# EAGLE library part TPS7A7200RGWR (library LDO)
CIC REG LINEAR POS ADJ 2A 20VQFN Manufacturer's datasheet <http://www.ti.com/lit/ds/symlink/tps7a7200.pdf?HQS=TI-null-null-digikeymode-df-pf-null-wwe&ts=1591771933105&ref_url=http://www.ti.com/general/docs/suppproductinfo.tsp?distId%3D10&gotoUrl=http://www.ti.com/lit/gpn/tps7a7200>
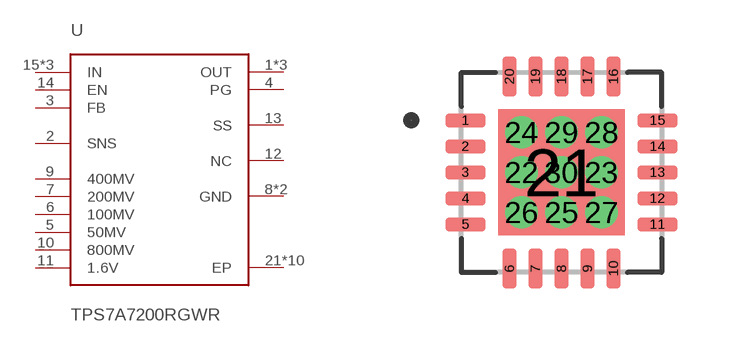
[diagram p5: symbol with the pads of 20-QFN-EP; footprint 20-QFN-EP]

Designator prefix U

## TPS7A7200RGWR (CREATED_BY: PCBLayout.com; DIGIKEY_PARTNO: 296-36860-1-ND; MANUFACTURER: Texas Instruments; MPN: TPS7A7200RGWR; PACKAGE: 20-VQFN)  [20-QFN-EP]
1  OUT  out
2  SNS  in
3  FB  in
4  PG  out
5  50MV  in
6  100MV  in
7  200MV  in
8  GND  pwr
9  400MV  in
10  800MV  in
11  1.6V  in
12  NC  pas
13  SS  pas
14  EN  in
15  IN  in
16  IN  in
17  IN  in
18  GND  pwr
19  OUT  out
20  OUT  out
21  EP  pwr
22  EP  pwr
23  EP  pwr
24  EP  pwr
25  EP  pwr
26  EP  pwr
27  EP  pwr
28  EP  pwr
29  EP  pwr
30  EP  pwr

## Footprint 20-QFN-EP (pad centres in mm)
Quad Flat No-Lead (QFN with Tab), 0.65 mm pitch; square, 5 pin X 5 pin, 5.00 mm L X 5.00 mm W X 1.00 mm H body PCB Libraries Packages
smd 1 x 0.35: 1 -2.4,1.3; 2 -2.4,0.65; 3 -2.4,0; 4 -2.4,-0.65; 5 -2.4,-1.3; 11 2.4,-1.3; 12 2.4,-0.65; 13 2.4,0; 14 2.4,0.65; 15 2.4,1.3
smd 0.35 x 1: 6 -1.3,-2.4; 7 -0.65,-2.4; 8 0,-2.4; 9 0.65,-2.4; 10 1.3,-2.4; 16 1.3,2.4; 17 0.65,2.4; 18 0,2.4; 19 -0.65,2.4; 20 -1.3,2.4
smd 3.15 x 3.15: 21 0,0
drill 0.3 pad 0.6: 22 -1,0; 23 1,0; 24 -1,1; 25 0,-1; 26 -1,-1; 27 1,-1; 28 1,1; 29 0,1; 30 0,0